# Altium footprint library Fuse.PcbLib: 6 footprints
Each footprint in its own frame and in the unit in brackets; x right, y up, seen from the top. Pads: shape width x height; smd on the part's side, far side on the other; paste and mask are expansions set on the pad; w line width, h text height; cw(c..) or ccw(c..) is an arc to the next point about the centre after c.
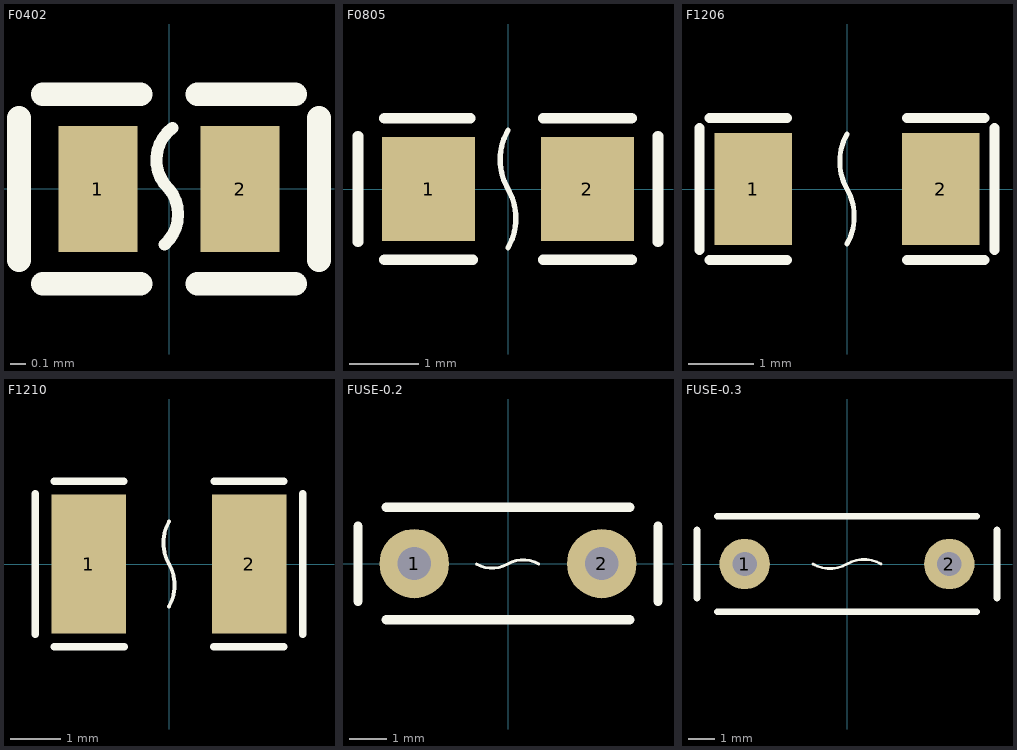
[diagram p0: the footprints below, top view; thin cyan lines are the x and y axes]

## F0402 [mm]
pads (2):
  rect 0.5x0.8 smd paste+0 mask+0.051: 1(-0.45,0) 2(0.45,0)
Top Overlay:
  lines w0.076: -0.028,-0.352 ccw(c-0.196,-0.161) 0,0 cw(c0.174,0.184) 0.021,0.387
  lines w0.15: -0.95,-0.45 -0.95,-0.4 -0.95,0.4 -0.95,0.45 ; -0.8,-0.6 -0.18,-0.6 ; -0.8,0.6 -0.18,0.6 ; 0.18,-0.6 0.8,-0.6 ; 0.18,0.6 0.8,0.6 ; 0.95,-0.45 0.95,-0.4 0.95,0.4 0.95,0.45

## F0805 [mm]
pads (2):
  rect 1.335x1.5 smd paste-100 mask+0.051: 1(-1.142,0) 2(1.142,0)
Top Overlay:
  lines w0.076: 0,-0.845 ccw(c-0.732,-0.422) 0,0 cw(c0.732,0.422) 0,0.845
  lines w0.152: -2.159,-0.762 -2.159,0.762 ; -1.778,-1.016 -0.508,-1.016 ; -1.778,1.016 -0.545,1.016 ; 0.508,-1.016 1.778,-1.016 ; 0.508,1.016 1.778,1.016 ; 2.159,-0.762 2.159,0.762
Top Paste:
  region: -1.675,-0.62 -1.675,0.66 -1.625,0.71 -0.475,0.71 -0.425,0.66 -0.42,0.25 -0.87,0.25 -0.87,-0.2 -0.43,-0.2 -0.425,-0.62 -0.475,-0.67 -1.625,-0.67
  region: 0.475,-0.62 0.475,-0.2 0.92,-0.2 0.92,0.25 0.48,0.25 0.475,0.66 0.525,0.71 1.675,0.71 1.725,0.66 1.725,-0.62 1.675,-0.67 0.525,-0.67

## F1206 [mil]
pads (2):
  rect 46.85x68.03 smd paste+0 mask+2: 1(-56.89,0) 2(56.89,0)
Top Overlay:
  lines w3: 0,-33.27 ccw(c-28.81,-16.63) 0,0 cw(c28.81,16.63) 0,33.27
  lines w6: -89.32,-37.02 -89.32,37.02 ; -83.32,-43.02 -36.46,-43.02 ; -83.32,43.02 -36.46,43.02 ; 36.47,-43.02 83.32,-43.02 ; 36.47,43.02 83.32,43.02 ; 89.32,-37.02 89.32,37.02

## F1210 [mm]
pads (2):
  rect 1.485x2.781 smd paste-100 mask+0.051: 1(-1.6,0) 2(1.6,0)
Top Overlay:
  lines w0.076: 0,-0.845 ccw(c-0.732,-0.422) 0,0 cw(c0.732,0.422) 0,0.845
  lines w0.152: -2.667,-1.397 -2.667,1.397 ; -2.286,-1.651 -0.889,-1.651 ; -2.286,1.651 -0.903,1.651 ; 0.889,-1.651 2.286,-1.651 ; 0.903,1.651 2.286,1.651 ; 2.667,-1.397 2.667,1.397
Top Paste:
  region: 0.858,-1.29 0.858,-0.573 0.958,-0.473 1.262,-0.473 1.362,-0.373 1.362,0.373 1.262,0.473 0.958,0.473 0.858,0.573 0.858,1.29 0.958,1.39 2.242,1.39 2.342,1.29 2.342,-1.29 2.242,-1.39 0.958,-1.39
  region: -0.858,-1.29 -0.858,-0.573 -0.958,-0.473 -1.262,-0.473 -1.362,-0.373 -1.362,0.373 -1.262,0.473 -0.958,0.473 -0.858,0.573 -0.858,1.29 -0.958,1.39 -2.242,1.39 -2.342,1.29 -2.342,-1.29 -2.242,-1.39 -0.958,-1.39

## FUSE-0.2 [mil]
pads (2):
  round 74 hole 35.4 paste-99999 mask+2: 1(-100,0) 2(100,0)
Top Overlay:
  lines w3: -33.77,-0.37 ccw(c-17.13,28.43) -0.5,-0.37 cw(c16.13,-29.18) 32.77,-0.37
  lines w10: -160,-40 -160,40 ; -130,-60 130,-60 ; -130,60 130,60 ; 160,-40 160,40

## FUSE-0.3 [mil]
pads (2):
  round 74 hole 35.4 paste-99999 mask+2: 1(-150,0) 2(150,0)
Top Overlay:
  lines w4: -50,0 ccw(c-25,43.3) 0,0 cw(c25,-43.3) 50,0
  lines w10: -220,-50 -220,50 ; -190,-70 190,-70 ; -190,70 190,70 ; 220,-50 220,50